# Altium footprint library Miscellaneous Connector PCB.PcbLib: 186 footprints (part 12 of 12)
Each footprint in its own frame and in the unit in brackets; x right, y up, seen from the top. Pads: shape width x height; smd on the part's side, far side on the other; paste and mask are expansions set on the pad; w line width, h text height; cw(c..) or ccw(c..) is an arc to the next point about the centre after c.
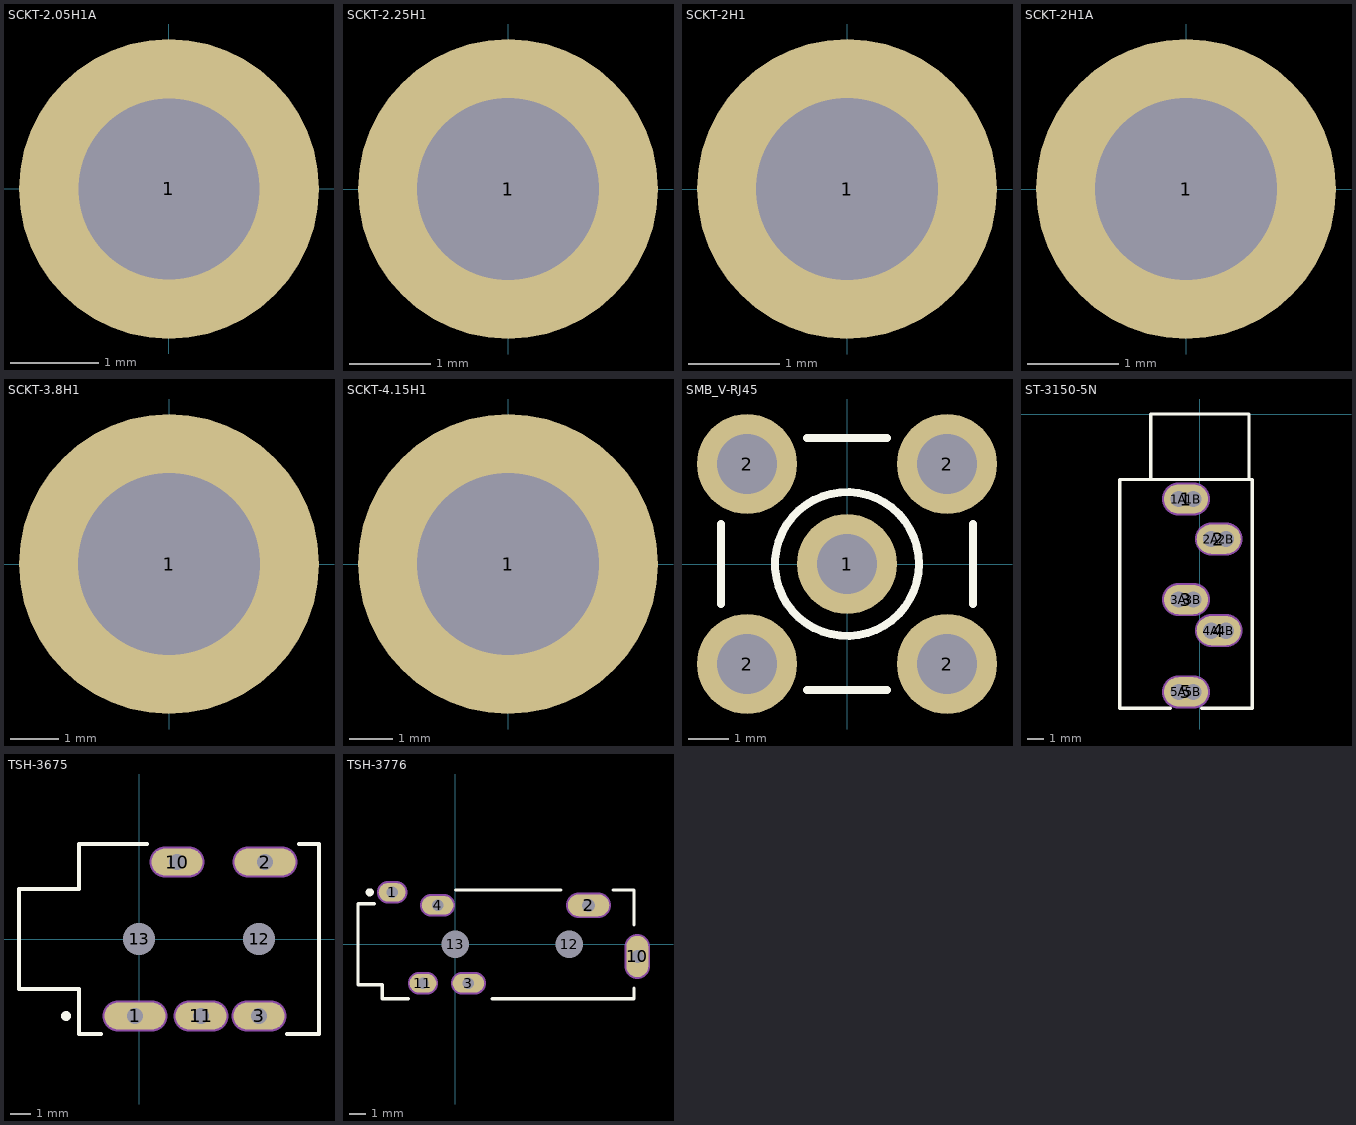
[diagram p11: the footprints below, top view; thin cyan lines are the x and y axes]

## SCKT-2.05H1A [mm] "PC Board Socket, For Pin Ø1.0mm, Body 5.95 x 2.67 mm (LxDia.)"
pads (1):
  round 3.4 hole 2.05: 1(0,0)
Mechanical 15:
  circle w0.1: c0,0 r1.335

## SCKT-2.25H1 [mm] "PC Board Socket, For Pin Ø1.0mm, Body 6.1 x 3.28 mm (LxDia.)"
pads (1):
  round 3.7 hole 2.25: 1(0,0)
Mechanical 15:
  circle w0.1: c0,0 r1.64

## SCKT-2H1 [mm] "PC Board Socket, For Pin Ø1.0mm, Body 5.55 x 2.35 mm (LxDia.)"
pads (1):
  round 3.3 hole 2: 1(0,0)
Mechanical 15:
  circle w0.1: c0,0 r1.175

## SCKT-2H1A [mm] "PC Board Socket, For Pin Ø1.0mm, Body 5.95 x 2.67 mm (LxDia.)"
pads (1):
  round 3.3 hole 2: 1(0,0)
Mechanical 15:
  circle w0.1: c0,0 r1.335

## SCKT-3.8H1 [mm] "PC Board Socket, For Pin Ø2.0mm, Body 10.60 x 4.75 mm (LxDia.)"
pads (1):
  round 6.25 hole 3.8: 1(0,0)
Mechanical 15:
  circle w0.1: c0,0 r2.375

## SCKT-4.15H1 [mm] "PC Board Socket, For Pin Ø2.0mm, Body 8.00 x 4.75 mm (LxDia.)"
pads (1):
  round 6.85 hole 4.15: 1(0,0)
Mechanical 15:
  circle w0.1: c0,0 r2.375

## SMB_V-RJ45 [mm]
pads (5):
  round 2.5 hole 1.5: 1(0,0) 2(-2.5,-2.5) 2(-2.5,2.5) 2(2.5,-2.5) 2(2.5,2.5)
Top Overlay:
  circle w0.2: c0,0 r1.8
  lines w0.2: -3.15,-1 -3.15,1 ; -1,-3.15 1,-3.15 ; -1,3.15 1,3.15 ; 3.15,-1 3.15,1
Mechanical 1:
  circle w0.025: c0,0 r0.2
  circle w0.025: c0,0 r1.05
  circle w0.025: c0,0 r1.8

## ST-3150-5N [mm]
pads (15):
  oval 2.7x1.8 all layers, no hole: 1(-0.85,-5.2) 2(1.15,-7.65) 3(-0.85,-11.35) 4(1.15,-13.25) 5(-0.85,-17)
  round 1.2 hole 1: 1A(-1.3,-5.2) 1B(-0.4,-5.2) 2A(0.7,-7.65) 2B(1.6,-7.65) 3A(-1.3,-11.35) 3B(-0.4,-11.35) 4A(0.7,-13.25) 4B(1.6,-13.25) 5A(-1.3,-17) 5B(-0.4,-17)
Top Overlay:
  lines w0.2: -3,-4 -3,0 3,0 3,-4 ; -1.8,-18 -4.9,-18 -4.9,-4 3.2,-4 3.2,-18 0.1,-18
Mechanical 1:
  lines w1: -1.3,-17 -0.4,-17 ; -1.3,-11.35 -0.4,-11.35 ; -1.3,-5.2 -0.4,-5.2 ; 0.7,-13.25 1.6,-13.25 ; 0.7,-7.65 1.6,-7.65
  text "Alert PCB fab to slot details" at -7.226,1.874 h0.3
  text "Slot 1x1.9mm, PTH" at -7.226,1.374 h0.3
  text "Assign keep-out area to slot" at -7.226,2.374 h0.3
  text "Mech 1 - Slot cut-out" at -7.226,0.874 h0.3
  text "Mech 2 - Clearance, move to internal plane if present" at -7.226,0.374 h0.3
Mechanical 2:
  lines w2.016: -1.3,-17 -0.4,-17 ; -1.3,-11.35 -0.4,-11.35 ; -1.3,-5.2 -0.4,-5.2 ; 0.7,-13.25 1.6,-13.25 ; 0.7,-7.65 1.6,-7.65

## TSH-3675 [mm] "Jack for 3.5mm stereo plug"
height 5
pads (7):
  oval 3.05x1.35 hole 0.8: 1(-0.2,-3.85) 2(6.3,3.85)
  oval 2.55x1.35 hole 0.8: 3(6,-3.85) 10(1.9,3.85) 11(3.1,-3.85)
  round 1.3 hole 1.6 unplated: 12(6,0) 13(0,0)
Top Overlay:
  circle w0.25: c-3.65,-3.85 r0.125
  lines w0.2: -1.9,-4.75 -3,-4.75 -3,-2.5 -6,-2.5 -6,2.5 -3,2.5 -3,4.75 0.4,4.75 ; 7.4,-4.75 9,-4.75 9,4.75 8,4.75
Mechanical 1:
  lines w0.8: -1.05,-3.85 0.65,-3.85 ; 1.3,3.85 2.5,3.85 ; 2.5,-3.85 3.7,-3.85 ; 5.4,-3.85 6.6,-3.85 ; 5.45,3.85 7.15,3.85
  text "For Pins 3, 10, 11 Slot 0.8x2.0mm, PTH" at -5.93,6.982 h0.3
  text "For Pins 1, 2 Slot 0.8x2.5mm, PTH" at -5.93,7.482 h0.3
  text "Mech 2 - Clearance, move to internal plane if present" at -5.93,5.981 h0.3
  text "Mech 1 - Slot cut-out" at -5.93,6.481 h0.3
  text "Assign keep-out area to slot" at -5.93,8.482 h0.3
  text "Alert PCB fab to slot details" at -5.93,7.982 h0.3
Mechanical 2:
  lines w1.566: -1.05,-3.85 0.65,-3.85 ; 1.3,3.85 2.5,3.85 ; 2.5,-3.85 3.7,-3.85 ; 5.4,-3.85 6.6,-3.85 ; 5.45,3.85 7.15,3.85

## TSH-3776 [mm] "Jack for 3.5mm stereo plug"
height 5
pads (8):
  oval 1.65x1.15 hole 0.7: 1(-3.9,3.2) 11(-2,-2.4)
  oval 2.55x1.35 hole 0.8: 2(8.2,2.4)
  oval 1.95x1.15 hole 0.7: 3(0.8,-2.4) 4(-1.1,2.4)
  oval 1.35x2.55 hole 0.8: 10(11.2,-0.75)
  round 1.4 hole 1.7 unplated: 12(7,0) 13(0,0)
Top Overlay:
  circle w0.25: c-5.275,3.2 r0.125
  lines w0.2: -5,2.5 -6,2.5 -6,-2.5 -4.5,-2.5 -4.5,-3.35 -2.9,-3.35 ; 0,3.35 6.5,3.35 ; 2.25,-3.35 11,-3.35 11,-2.7 ; 9.7,3.35 11,3.35 11,1.2
Mechanical 1:
  lines w0.7: -4.15,3.2 -3.65,3.2 ; -2.25,-2.4 -1.75,-2.4 ; -1.5,2.4 -0.7,2.4 ; 0.4,-2.4 1.2,-2.4
  lines w0.8: 7.6,2.4 8.8,2.4 ; 11.2,-1.35 11.2,-0.15
  text "Alert PCB fab to slot details" at -5.93,7.481 h0.3
  text "For Pins 1, 11 Slot 0.7x1.2mm, PTH" at -5.93,6.981 h0.3
  text "Assign keep-out area to slot" at -5.93,7.982 h0.3
  text "Mech 1 - Slot cut-out" at -5.93,5.281 h0.3
  text "Mech 2 - Clearance, move to internal plane if present" at -5.93,4.781 h0.3
  text "For Pins 3, 4 Slot 0.7x1.5mm, PTH" at -5.93,6.381 h0.3
  text "For Pins 2, 10 Slot 0.8x2.0mm, PTH" at -5.93,5.781 h0.3
Mechanical 2:
  lines w1.366: -4.15,3.2 -3.65,3.2 ; -2.25,-2.4 -1.75,-2.4 ; -1.5,2.4 -0.7,2.4 ; 0.4,-2.4 1.2,-2.4
  lines w1.566: 7.6,2.4 8.8,2.4 ; 11.2,-1.35 11.2,-0.15